# Altium integrated library JTI RF and IF Antenna.IntLib: 1 symbol
Pins are listed as number, name and electrical type; pins without a type are passive.

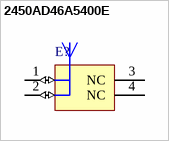
[diagram p0: symbol 2450AD46A5400E]

## 2450AD46A5400E
designator E?
LTCC based Chip Antenna, Dual Band 2.45/5.40 GHz; PCB_Layout: Complies with manufacturer's recommendation.; Published: 26-Sep-2008; DatasheetVersion: Mar-2005; PackageVersion: Mar-2005; PackageReference: 46-1; Publisher: Altium Limited; PackageDescription: Chip Antenna, LTCC; 4 Leads, Body 8.5 x 1.6 mm (LxW); ComponentLink1Description: Manufacturer Link; ComponentLink1URL: http://www.johansontechnology.com/; ComponentLink2Description: Datasheet; ComponentLink2URL: http://www.johansontechnology.com/products/rfc/ant/JTI_Antenna-2450AD46A5400_3-05.pdf
footprint 46-1 (Chip Antenna; 4 Leads, Body 8.5x1.6mm (LxW))
pins: 1 High Band Feed (io) "4900 - 5900 MHz", 2 Low Band Feed (io) "2400 - 2500 MHz", 3 NC, 4 NC